# Altium schematic symbol library TI.SchLib: 38 symbols
Pins are listed as number, name and electrical type; pins without a type are passive.

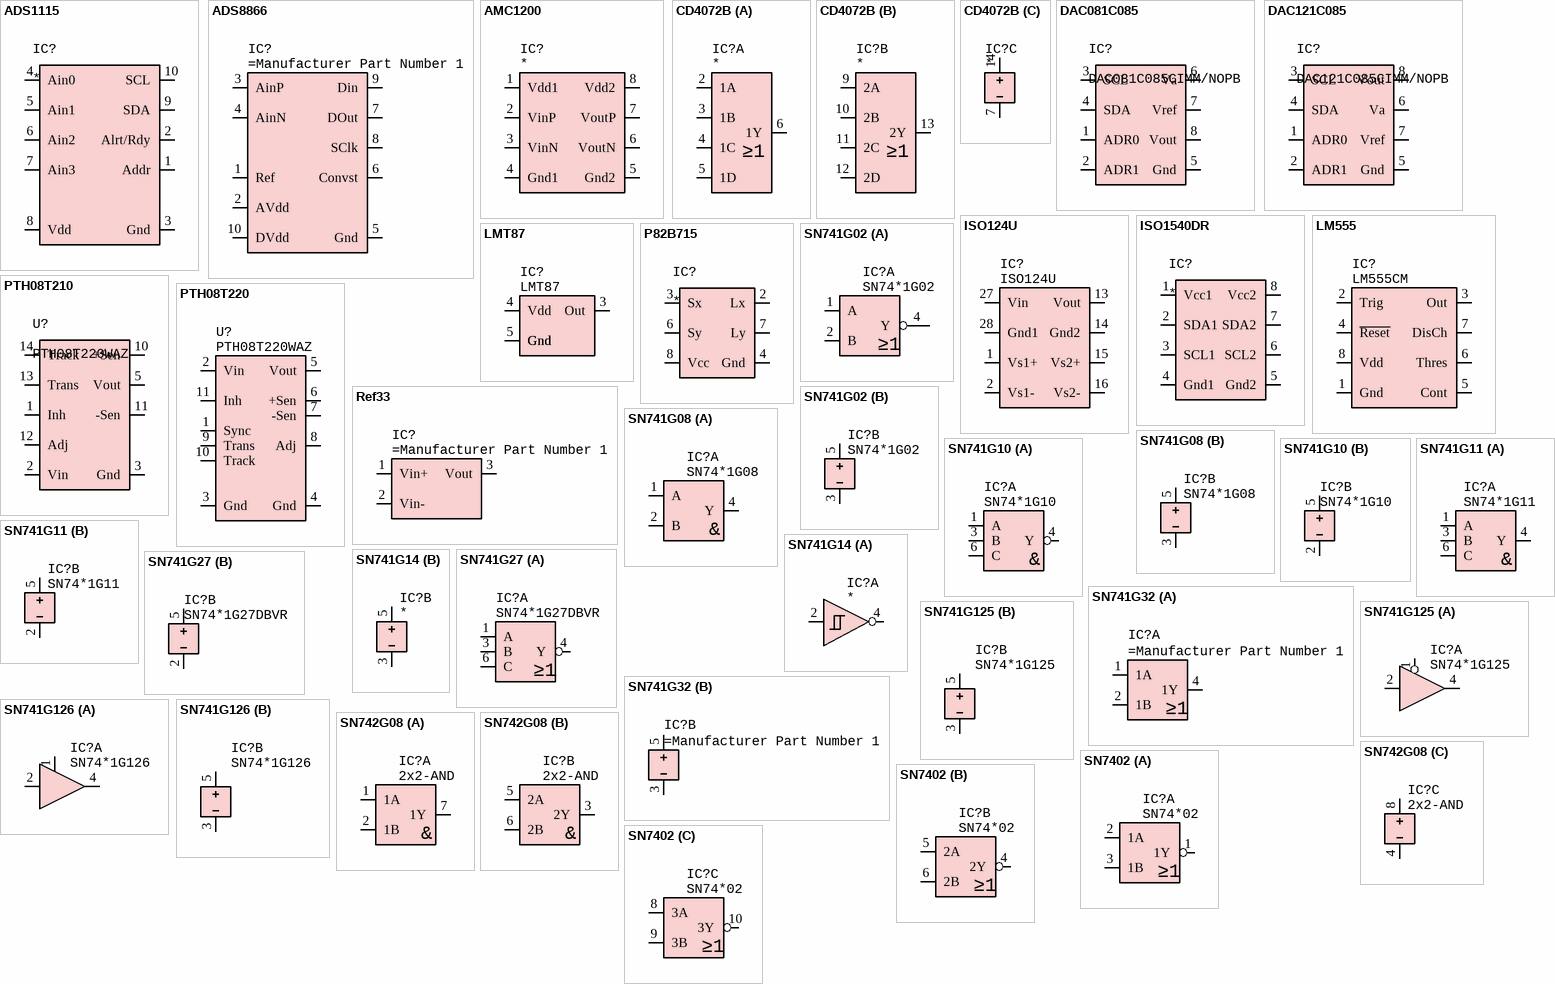
[diagram p0: symbols ADS1115 to SN7402]

## ADS1115
designator IC?
ADC, 16bit, Delta Sigma, 4 Channel; Manufacturer Part Number 1: ADS1115; Manufacturer 1: TI
footprint MSOP50P490X110-10N (MSOP, 10-Leads, Body 3.00x3.00mm, Pitch 0.50mm, IPC Medium Density)
pins: 1 Addr, 2 Alrt/Rdy, 3 Gnd (power), 4 Ain0, 5 Ain1, 6 Ain2, 7 Ain3, 8 Vdd (power), 9 SDA, 10 SCL

## ADS8866
designator IC?
16bit, 100kSps, SAR ADC
footprint MSOP50P490X110-10N (MSOP, 10-Leads, Body 3.00x3.00mm, Pitch 0.50mm, IPC Medium Density)
pins: 1 Ref, 2 AVdd (power), 3 AinP, 4 AinN, 5 Gnd (power), 6 Convst, 7 DOut, 8 SClk, 9 Din, 10 DVdd (power)

## AMC1200
designator IC?
Isolated Amplifier, Single Supply; Manufacturer Part Number 1: AMC1200-Q1; Manufacturer 1: TI
footprint SOIC127P1150X280-8N (SOIC, 8-Leads, Wide Body 5.85x7.50mm, Pitch 1.27mm, IPC Medium Density)
pins: 1 Vdd1 (power), 2 VinP, 3 VinN, 4 Gnd1 (power), 5 Gnd2 (power), 6 VoutN, 7 VoutP, 8 Vdd2 (power)

## CD4072B
designator IC?
Dual 4-Input OR Gate; Manufacturer 1: TI; Manufacturer Part Number 1: CD4072B
footprint TSSOP65P640X120-14N (TSSOP, 14-Leads, Body 5.00x4.40mm, Pitch 0.65mm, IPC Medium Density)
part A pins: 2 1A, 3 1B, 4 1C, 5 1D, 6 1Y
part B pins: 9 2A, 10 2B, 11 2C, 12 2D, 13 2Y
part C pins: 7 - (power), 14 + (power)
part A text: ≥1
part B text: ≥1

## DAC081C085
designator IC?, comment DAC081C085CIMM/NOPB
DAC, 8bit, I2C; Manufacturer 1: TI; Manufacturer Part Number 1: DAC081C085CIMM/NOPB
footprint MSOP65P490X86-8N (TSOP, 8-Leads, Body 3.00x3.00mm, Pitch 0.65mm, IPC Medium Density)
pins: 1 ADR0, 2 ADR1, 3 SCL, 4 SDA, 5 Gnd (power), 6 Va (power), 7 Vref, 8 Vout

## DAC121C085
designator IC?, comment DAC121C085CIMM/NOPB
DAC, 12bit, I2C; Manufacturer 1: TI; Manufacturer Part Number 1: DAC121C085CIMM/NOPB
footprint MSOP65P490X86-8N (TSOP, 8-Leads, Body 3.00x3.00mm, Pitch 0.65mm, IPC Medium Density)
pins: 1 ADR0, 2 ADR1, 3 SCL, 4 SDA, 5 Gnd (power), 6 Va (power), 7 Vref, 8 Vout

## ISO124U
designator IC?
Isolation Amp 50kHz; Manufacturer 1: TI; Supplier 1: Farnell; Supplier Part Number 1: 1212426; Manufacturer Part Number 1: ISO124U
footprint SOIC127P1030X265-28N (SOIC, 28-Leads, Body 17.90x7.50mm, Pitch 1.27mm, IPC Medium Density)
pins: 1 Vs1+ (power), 2 Vs1- (power), 13 Vout, 14 Gnd2 (power), 15 Vs2+ (power), 16 Vs2- (power), 27 Vin, 28 Gnd1 (power)

## ISO1540DR
designator IC?
Digital Isolator; Manufacturer 1: TEXAS INSTRUMENTS; Manufacturer Part Number 1: ISO1540DR; Anzahl der Kanäle: 2 Kanäle; Ausbreitungsverzögerung: 70; Versorgungsspannung, min.: 3; Versorgungsspannung, max.: 5.5; Bauform: SOIC; Anzahl der Pins: 8; Betriebstemperatur, min.: -40; Betriebstemperatur, max.: 125; Verpackung: Gurtverpackung; Supplier 1: Farnell; Supplier Part Number 1: 2542854; Produktpalette: -; Qualifizierungsstandard der Automobilindustrie: -; MSL: MSL 2 - 1 Jahr<!--FANDB--><div class="features-and-benefits-container"></div>; ComponentLink1URL: http://www.ti.com/general/docs/lit/getliterature.tsp?genericPartNumber=ISO1540&amp;&amp;fileType=pdf; ComponentLink1Description: http://www.ti.com/general/docs/lit/getliterature.tsp?genericPartNumber=ISO1540&amp;&amp;fileType=pdf
footprint SOIC127P590X175-8N (SOIC, 8-Leads, Body 4.90x3.90mm, Pitch 1.27mm, IPC Medium Density)
pins: 1 Vcc1 (power), 2 SDA1, 3 SCL1, 4 Gnd1 (power), 5 Gnd2 (power), 6 SCL2, 7 SDA2, 8 Vcc2 (power)

## LM555
designator IC?, comment LM555CM
CMOS Timer; Value: LM555CM
footprint SOIC127P590X175-8N (SOIC, 8-Leads, Body 4.90x3.90mm, Pitch 1.27mm, IPC Medium Density)
pins: 1 Gnd (power), 2 Trig, 3 Out, 4 ~{Reset}, 5 Cont, 6 Thres, 7 DisCh, 8 Vdd

## LMT87
designator IC?
LMT87 Analog Temperature Sensor; Manufacturer 1: TI; Manufacturer Part Number 1: LMT87; Value: *
footprint SOT65P210X110-5N (SC70, 5-Leads, Body 2.00x2.10mm, Pitch 0.65mm, IPC Medium Density)
pins: 1 Gnd (power), 2 Gnd (power), 3 Out, 4 Vdd (power), 5 Gnd (power)

## P82B715
designator IC?
Manufacturer Part Number 1: P82B715; Manufacturer 1: TI
footprint SOIC127P590X175-8N (SOIC, 8-Leads, Body 4.90x3.90mm, Pitch 1.27mm, IPC Medium Density)
pins: 2 Lx, 3 Sx, 4 Gnd (power), 6 Sy, 7 Ly, 8 Vcc (power), NC 1 hidden, NC 5 hidden

## PTH08T210
designator U?, comment PTH08T220WAZ
Power Module, non-isolated, 16A; Manufacturer 1: TEXAS INSTRUMENTS; DC/DC-Wandler: POLA, DIP für Oberflächenmontage; Ausgangsleistung, max.: 88; Ausgangsspannung, min.: 690; Ausgangsspannung, max.: 5.5; Ausgangsstrom, max.: 16; DC-Eingangsspannung, min.: 4.5; DC-Eingangsspannung, max.: 14; Höhe: 9.09; Tiefe: 22.1; Breite: 18.93; Zulassungen & Normen: CSA, IEC, UL; SVHC: No SVHC (15-Jun-2015); Anzahl der Ausgänge: 1; DC/DC-Wandlerausgang: Einstellbar; DC/DC-Wandlermontage: Oberflächenmontage; Versorgungsspannung: 5; Zulassungsstelle: CSA, IEC, UL<!--FANDB--><div class="features-and-benefits-container"></div>; Supplier 1: Farnell; Supplier Part Number 1: 1704191; Manufacturer Part Number 1: PTH08T220WAZ; Ausgangsspannung: 5.5; Ausgangsstrom: 16; ComponentLink1URL: http://www.farnell.com/datasheets/1748645.pdf; ComponentLink1Description: http://www.farnell.com/datasheets/1748645.pdf
pins: 1 Inh, 2 Vin (power), 3 Gnd (power), 4 Gnd (power), 5 Vout (power), 6 Vin (power), 7 Gnd (power), 8 Gnd (power), 9 Vout (power), 10 +Sen, 11 -Sen, 12 Adj, 13 Trans, 14 Track

## PTH08T220
designator U?, comment PTH08T220WAZ
Power Module, non-isolated, 16A; Manufacturer 1: TEXAS INSTRUMENTS; DC/DC-Wandler: POLA, DIP für Oberflächenmontage; Ausgangsleistung, max.: 88; Ausgangsspannung, min.: 690; Ausgangsspannung, max.: 5.5; Ausgangsstrom, max.: 16; DC-Eingangsspannung, min.: 4.5; DC-Eingangsspannung, max.: 14; Höhe: 9.09; Tiefe: 22.1; Breite: 18.93; Zulassungen & Normen: CSA, IEC, UL; SVHC: No SVHC (15-Jun-2015); Anzahl der Ausgänge: 1; DC/DC-Wandlerausgang: Einstellbar; DC/DC-Wandlermontage: Oberflächenmontage; Versorgungsspannung: 5; Zulassungsstelle: CSA, IEC, UL<!--FANDB--><div class="features-and-benefits-container"></div>; Supplier 1: Farnell; Supplier Part Number 1: 1704191; Manufacturer Part Number 1: PTH08T220WAZ; Ausgangsspannung: 5.5; Ausgangsstrom: 16; ComponentLink1URL: http://www.farnell.com/datasheets/1748645.pdf; ComponentLink1Description: http://www.farnell.com/datasheets/1748645.pdf
pins: 1 Sync, 2 Vin (power), 3 Gnd (power), 4 Gnd (power), 5 Vout (power), 6 +Sen, 7 -Sen, 8 Adj, 9 Trans, 10 Track, 11 Inh

## Ref33
designator IC?
footprint SOT23-3_N (SOT23, 3-Leads, Body 2,90x2,80mm, Pitch 0,95mm, IPC Medium Density)
pins: 1 Vin+ (power), 2 Vin- (power), 3 Vout

## SN741G02
designator IC?, comment SN74*1G02
Single 2-Input NOR Gate; Manufacturer 1: Texas Instruments; Value: NOR; Manufacturer Part Number 1: SN74*1G02
footprint SN74LVC1G08_N (SOT23, 5-Leads, Body 2,90x2,80mm, Pitch 0,95mm, IPC Medium Density)
part A pins: 1 A, 2 B, 4 Y
part B pins: 3 Gnd (power), 5 Vcc (power)
part A text: ≥1

## SN741G08
designator IC?, comment SN74*1G08
Single 2-Input AND Gate; Manufacturer 1: Texas Instruments; Value: AND; Manufacturer Part Number 1: SN74*1G08
footprint SN74LVC1G08_N (SOT23, 5-Leads, Body 2,90x2,80mm, Pitch 0,95mm, IPC Medium Density)
part A pins: 1 A, 2 B, 4 Y
part B pins: 3 Gnd (power), 5 Vcc (power)
part A text: &

## SN741G10
designator IC?, comment SN74*1G10
Single 3-Input NAND Gate; Manufacturer 1: Texas Instruments; Value: NAND; Manufacturer Part Number 1: SN74*1G10
footprint SOT23-6_N (SOT23, 6-Leads, Body 2,90x2,80mm, Pitch 0,95mm, IPC Medium Density)
part A pins: 1 A, 3 B, 4 Y, 6 C (power)
part B pins: 2 - (power), 5 + (power)
part A text: &

## SN741G11
designator IC?, comment SN74*1G11
Single 3-Input AND Gate; Manufacturer 1: Texas Instruments; Value: AND; Manufacturer Part Number 1: SN74*1G11
footprint SOT23-6_N (SOT23, 6-Leads, Body 2,90x2,80mm, Pitch 0,95mm, IPC Medium Density)
part A pins: 1 A, 3 B, 4 Y, 6 C (power)
part B pins: 2 - (power), 5 + (power)
part A text: &

## SN741G14
designator IC?
Single Schmitt Trigger Inverter; Manufacturer Part Number 1: SN74*1G14; Manufacturer 1: Texas Instruments
footprint SOT23-5_N (SOT23, 5-Leads, Body 2,90x2,80mm, Pitch 0,95mm, IPC Medium Density)
part A pins: 2 A, 4 Y
part B pins: 3 Gnd (power), 5 Vdd (power)

## SN741G27
designator IC?, comment SN74*1G27DBVR
Single 3-Input NOR Gate; Manufacturer 1: Texas Instruments; Value: NOR; Manufacturer Part Number 1: SN74*1G27DBVR
footprint SOT23-6_N (SOT23, 6-Leads, Body 2,90x2,80mm, Pitch 0,95mm, IPC Medium Density)
part A pins: 1 A, 3 B, 4 Y, 6 C
part B pins: 2 - (power), 5 + (power)
part A text: ≥1

## SN741G32
designator IC?
Single OR Gate; Value: *
footprint SOT23-5_N (SOT23, 5-Leads, Body 2,90x2,80mm, Pitch 0,95mm, IPC Medium Density)
part A pins: 1 1A, 2 1B, 4 1Y
part B pins: 3 Gnd, 5 Vdd
part A text: ≥1

## SN741G125
designator IC?, comment SN74*1G125
Single Buffer, Inverting Output Enable; Manufacturer 1: TI; Manufacturer Part Number 1: SN74*1G125
footprint SOT23-5_N (SOT23, 5-Leads, Body 2,90x2,80mm, Pitch 0,95mm, IPC Medium Density)
part A pins: 1 /OE, 2 1A, 4 1Y
part B pins: 3 Gnd (power), 5 Vdd (power)

## SN741G126
designator IC?, comment SN74*1G126
Single Buffer, Non-Inverting Output Enable; Manufacturer 1: TI; Manufacturer Part Number 1: SN74*1G126
footprint SOT23-5_N (SOT23, 5-Leads, Body 2,90x2,80mm, Pitch 0,95mm, IPC Medium Density)
part A pins: 1 /OE, 2 1A, 4 1Y
part B pins: 3 Gnd (power), 5 Vdd (power)

## SN742G08
designator IC?, comment 2x2-AND
Dual 2-Input AND Gate; Manufacturer 1: Texas Instruments; Manufacturer Part Number 1: SN74*2G08; Value: 2x2-AND
footprint SOIC127P590X175-8N (SOIC, 8-Leads, Body 4.90x3.90mm, Pitch 1.27mm, IPC Medium Density)
part A pins: 1 1A, 2 1B, 7 1Y
part B pins: 3 2Y, 5 2A, 6 2B
part C pins: 4 Gnd (power), 8 Vcc (power)
part A text: &
part B text: &

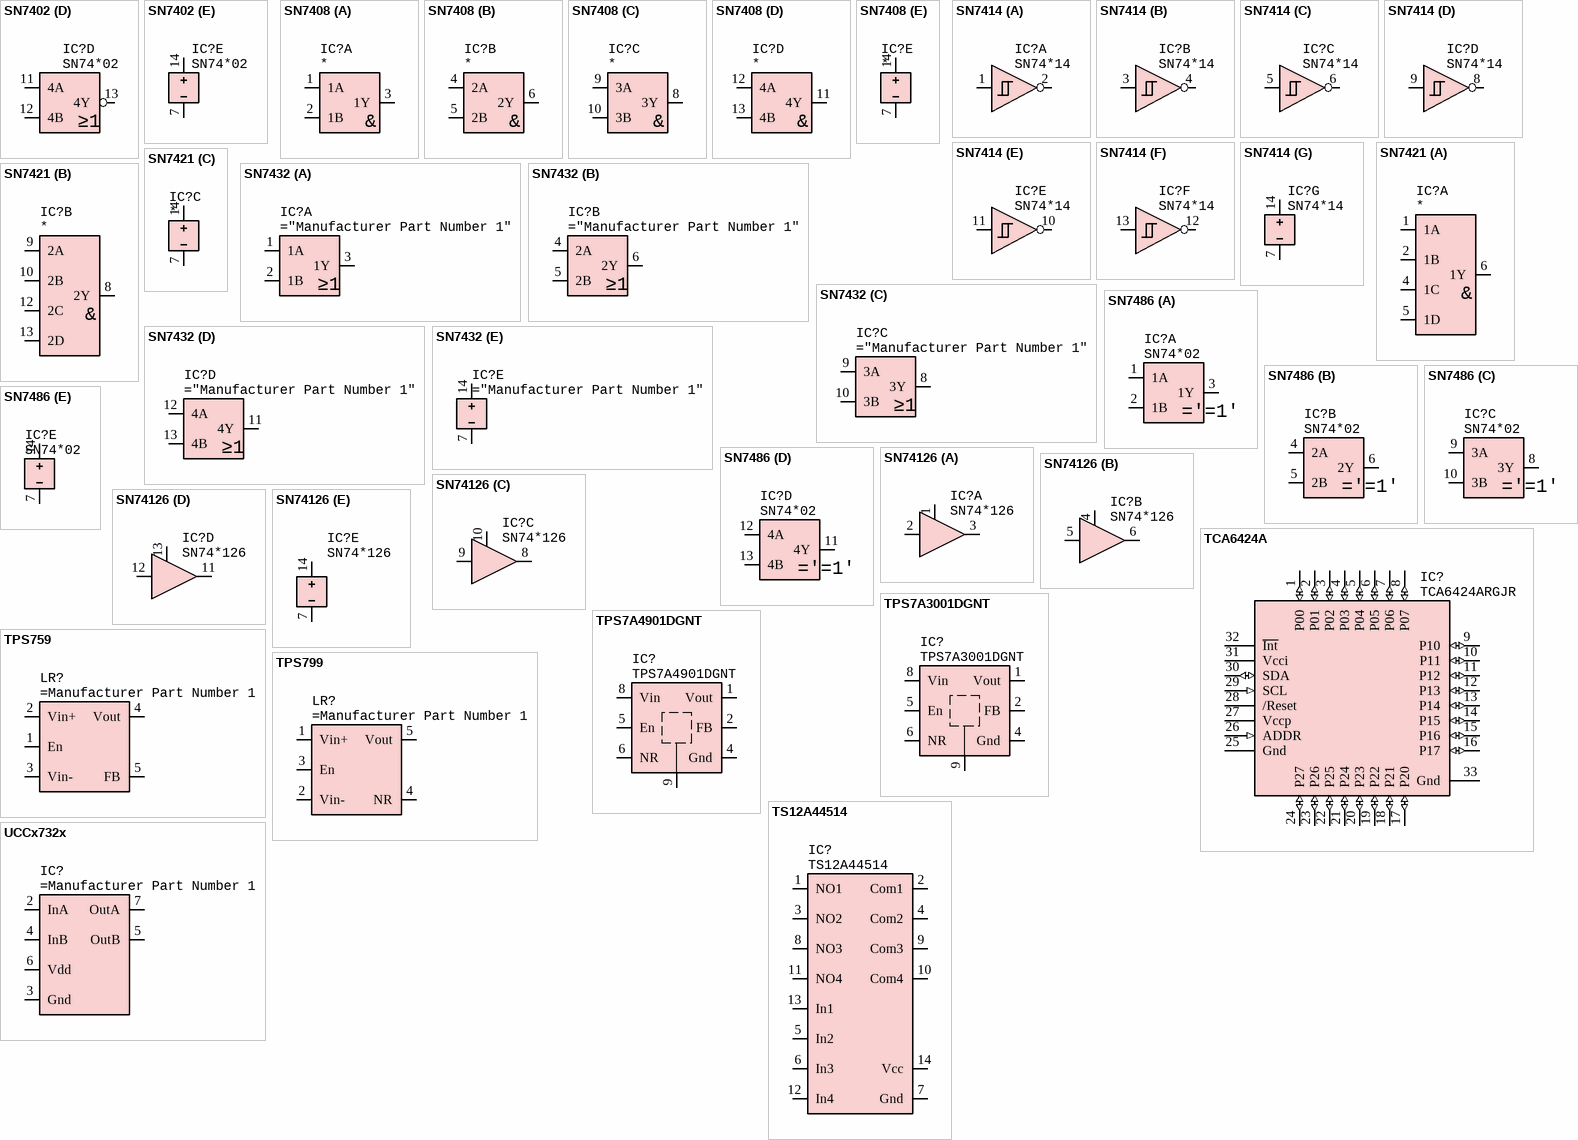
[diagram p1: symbols SN7402 to UCCx732x]

## SN7402
designator IC?, comment SN74*02
Quad 2-Input NOR-Gate; Manufacturer 1: TI; Value: *; Manufacturer Part Number 1: SN74*02
footprint TSSOP65P640X120-14N (TSSOP, 14-Leads, Body 5.00x4.40mm, Pitch 0.65mm, IPC Medium Density)
part A pins: 1 1Y, 2 1A, 3 1B
part B pins: 4 2Y, 5 2A, 6 2B
part C pins: 8 3A, 9 3B, 10 3Y
part D pins: 11 4A, 12 4B, 13 4Y
part E pins: 7 Gnd (power), 14 Vcc (power)
part A text: ≥1
part B text: ≥1
part C text: ≥1
part D text: ≥1

## SN7408
designator IC?
Quad 2-Input AND Gate; Manufacturer 1: TI; Manufacturer Part Number 1: SN74*08A
footprint TSSOP65P640X120-14N (TSSOP, 14-Leads, Body 5.00x4.40mm, Pitch 0.65mm, IPC Medium Density)
part A pins: 1 1A, 2 1B, 3 1Y
part B pins: 4 2A, 5 2B, 6 2Y
part C pins: 8 3Y, 9 3A, 10 3B
part D pins: 11 4Y, 12 4A, 13 4B
part E pins: 7 - (power), 14 + (power)
part A text: &
part B text: &
part C text: &
part D text: &

## SN7414
designator IC?, comment SN74*14
Hex Schmitt Trigger Inverter; Manufacturer 1: Texas Instruments; Manufacturer Part Number 1: SN74*14
footprint TSSOP65P640X120-14N (TSSOP, 14-Leads, Body 5.00x4.40mm, Pitch 0.65mm, IPC Medium Density)
part A pins: 1 1A, 2 1Y
part B pins: 3 2A, 4 2Y
part C pins: 5 3A, 6 3Y
part D pins: 8 4Y, 9 4A
part E pins: 10 5Y, 11 5A
part F pins: 12 6Y, 13 6A
part G pins: 7 Gnd (power), 14 VCC (power)

## SN7421
designator IC?
Dual 4-Input AND Gate; Manufacturer 1: TI; Manufacturer Part Number 1: SN74*21A
footprint TSSOP65P640X120-14N (TSSOP, 14-Leads, Body 5.00x4.40mm, Pitch 0.65mm, IPC Medium Density)
part A pins: 1 1A, 2 1B, 4 1C, 5 1D, 6 1Y
part B pins: 8 2Y, 9 2A, 10 2B, 12 2C, 13 2D
part C pins: 7 - (power), 14 + (power)
part A text: &
part B text: &

## SN7432
designator IC?
Quad 2-Input OR Gate
footprint TSSOP65P640X120-14N (TSSOP, 14-Leads, Body 5.00x4.40mm, Pitch 0.65mm, IPC Medium Density)
part A pins: 1 1A, 2 1B, 3 1Y
part B pins: 4 2A, 5 2B, 6 2Y
part C pins: 8 3Y, 9 3A, 10 3B
part D pins: 11 4Y, 12 4A, 13 4B
part E pins: 7 Gnd (power), 14 Vcc (power)
part A text: ≥1
part B text: ≥1
part C text: ≥1
part D text: ≥1

## SN7486
designator IC?, comment SN74*02
Quad 2-Input XOR-Gate; Manufacturer 1: TI; Value: *; Manufacturer Part Number 1: SN74*02
footprint TSSOP65P640X120-14N (TSSOP, 14-Leads, Body 5.00x4.40mm, Pitch 0.65mm, IPC Medium Density)
part A pins: 1 1A, 2 1B, 3 1Y
part B pins: 4 2A, 5 2B, 6 2Y
part C pins: 8 3Y, 9 3A, 10 3B
part D pins: 11 4Y, 12 4A, 13 4B
part E pins: 7 Gnd (power), 14 Vcc (power)

## SN74126
designator IC?, comment SN74*126
Quad Buffer, Non-Inverting Output Enable; Manufacturer 1: TI; Manufacturer Part Number 1: SN74*126
footprint TSSOP65P640X120-14N (TSSOP, 14-Leads, Body 5.00x4.40mm, Pitch 0.65mm, IPC Medium Density)
part A pins: 1 /OE, 2 1A, 3 1Y
part B pins: 4 /OE, 5 1A, 6 1Y
part C pins: 8 1Y, 9 1A, 10 /OE
part D pins: 11 1Y, 12 1A, 13 /OE
part E pins: 7 Gnd (power), 14 Vdd (power)

## TCA6424A
designator IC?, comment TCA6424ARGJR
I/O Port Expander; Manufacturer 1: Texas Instruments; Supplier 1: Farnell; Supplier Part Number 1: 2308700; Value: TCA6424ARGJR; Manufacturer Part Number 1: TCA6424ARGJR
footprint QFN50P500X500X60_HS-33N (QFN, 32-Leads, Body 5,00x5,00mm, Pitch 0,50mm, Thermal Pad 3,20x3,20mm, IPC Medium Density)
pins: 1 P00 (io), 2 P01 (io), 3 P02 (io), 4 P03 (io), 5 P04 (io), 6 P05 (io), 7 P06 (io), 8 P07 (io), 9 P10 (io), 10 P11 (io), 11 P12 (io), 12 P13 (io), 13 P14 (io), 14 P15 (io), 15 P16 (io), 16 P17 (io), 17 P20 (io), 18 P21 (io), 19 P22 (io), 20 P23 (io), 21 P24 (io), 22 P25 (io), 23 P26 (io), 24 P27 (io), 25 Gnd (power), 26 ADDR (in), 27 Vccp, 28 /Reset, 29 SCL (in), 30 SDA (io), 31 Vcci (power), 32 ~{Int}, 33 Gnd

## TPS7A3001DGNT
designator IC?
LDO, negative Output, ultralow Noise; Manufacturer 1: TEXAS INSTRUMENTS; Eingangsspannung, min.: -36; Eingangsspannung, max.: -3; Ausgangsspannung, min.: -1.18; Ausgangsspannung, max.: -33; Ausgangsstrom: 200; Dropout-Spannung Vdo: 216; Bauform: MSOP; Anzahl der Pins: 8; Betriebstemperatur, min.: -40; Betriebstemperatur, max.: 125; Verpackung: Gurtabschnitt; SVHC: No SVHC (15-Jun-2015); Ausgangsspannungseinstellung: -1.18V bis -33; Betriebstemperatur: -40°C bis +125; Eingangsspannung, primärseitig: 36; Sockelnummer: 7<!--FANDB--><div class="features-and-benefits-container"><div class="features-and-benefits-description"><span class="features-benefits-value">The TPS7A3001DGNT is a high-voltage, ultralow-noise Linear Regulator, can source a maximum load of 200mA. This linear regulator includes a CMOS logic-level-compatible enable pin and capacitor-programmable soft-start function that allows for customized power-management schemes. Other features include built-in current limit and thermal shutdown protection to safeguard the device and system during fault conditions. The TPS7A3001DGNT is designed using bipolar technology and is ideal for high-accuracy, high-precision instrumentation applications where clean voltage rails are critical to maximize system performance. This design makes the device an excellent choice to power operational amplifiers, analogue-to-digital converters (ADCs), digital-to-analogue converters (DACs) and other high-performance analogue circuitry.</span></div><div class="features-and-benefits-list"><ul class="features-and-benefits-list-list"><li class="features-and-benefits-list-item">14µVRMS (20Hz to 20kHz) and 15.1µVRMS (10Hz to 100kHz) Noise</li><li class="features-and-benefits-list-item">72dB (120Hz) and ?55dB (10Hz to 700kHz) Power-supply ripple rejection</li><li class="features-and-benefits-list-item">-1.18 to -33V Adjustable output</li><li class="features-and-benefits-list-item">200mA Maximum output current</li><li class="features-and-benefits-list-item">216mV at 100mA Dropout voltage</li><li class="features-and-benefits-list-item">Stable with ceramic capacitors (?2.2; Supplier 1: Farnell; Supplier Part Number 1: 1855138; Manufacturer Part Number 1: TPS7A3001DGNT; MSL: MSL 2 - 1 Jahr; ComponentLink1URL: http://www.farnell.com/simulation/1746530.zip; ComponentLink1Description: http://www.farnell.com/simulation/1746530.zip; ComponentLink2URL: http://www.farnell.com/datasheets/1857418.pdf; ComponentLink2Description: http://www.farnell.com/datasheets/1857418.pdf; ComponentLink3URL: http://www.farnell.com/cad/1610994.zip; ComponentLink3Description: http://www.farnell.com/cad/1610994.zip
footprint MSOP65P490X110_HS-9N (MSOP, 8-Leads, Body 3.00x3.00mm, Pitch 0.65mm, Thermal Pad 1.89x1.57mm, IPC Medium Density)
pins: 1 Vout (power), 2 FB, 4 Gnd (power), 5 En, 6 NR, 8 Vin, 9 Gnd (power)

## TPS7A4901DGNT
designator IC?
LDO, positive Output, ultralow Noise; Manufacturer 1: TEXAS INSTRUMENTS; Supplier 1: Farnell; Supplier Part Number 1: 1841881; Manufacturer Part Number 1: TPS7A4901DGNT; ComponentLink1URL: http://www.farnell.com/simulation/1746546.zip; ComponentLink1Description: http://www.farnell.com/simulation/1746546.zip; ComponentLink2URL: http://www.farnell.com/datasheets/1857485.pdf; ComponentLink2Description: http://www.farnell.com/datasheets/1857485.pdf; ComponentLink3URL: http://www.farnell.com/cad/1610996.zip; ComponentLink3Description: http://www.farnell.com/cad/1610996.zip
footprint MSOP65P490X110_HS-9N (MSOP, 8-Leads, Body 3.00x3.00mm, Pitch 0.65mm, Thermal Pad 1.89x1.57mm, IPC Medium Density)
pins: 1 Vout (power), 2 FB, 4 Gnd (power), 5 En, 6 NR, 8 Vin, 9 Gnd (power)

## TPS759
designator LR?
LDO
footprint SOT223-6_N (SOT223, 6-Leads, Body 6,50x7,00mm (avg), Pitch 1.27mm, IPC Medium Density)
pins: 1 En, 2 Vin+ (power), 3 Vin- (power), 4 Vout (power), 5 FB

## TPS799
designator LR?
LDO
footprint SOT23-5_N (SOT23, 5-Leads, Body 2,90x2,80mm, Pitch 0,95mm, IPC Medium Density)
pins: 1 Vin+ (power), 2 Vin- (power), 3 En, 4 NR, 5 Vout (power)

## TS12A44514
designator IC?
Analogue Multiplexer, 4 Channels, 4x Normally Open; Manufacturer 1: TI; Manufacturer Part Number 1: TS12A44514; Value: *
footprint TSSOP65P640X120-14N (TSSOP, 14-Leads, Body 5.00x4.40mm, Pitch 0.65mm, IPC Medium Density)
pins: 1 NO1, 2 Com1, 3 NO2, 4 Com2, 5 In2, 6 In3, 7 Gnd (power), 8 NO3, 9 Com3, 10 Com4, 11 NO4, 12 In4, 13 In1, 14 Vcc (power)

## UCCx732x
designator IC?
footprint SOIC127P590X175-8N (SOIC, 8-Leads, Body 4.90x3.90mm, Pitch 1.27mm, IPC Medium Density)
pins: 2 InA, 3 Gnd (power), 4 InB, 5 OutB, 6 Vdd (power), 7 OutA